# EAGLE library part FREESCALE_SEMICONDUCTOR_MPL3115A2 (library Upverter Library)
FRES-MPL3115A2-8
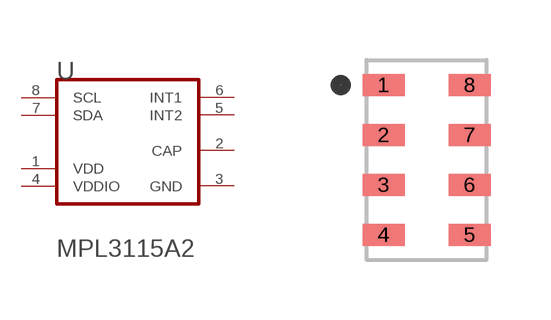
[diagram p0: symbol with the pads of FREESCALE_SEMICONDUCTOR_MPL3115A2_0; footprint FREESCALE_SEMICONDUCTOR_MPL3115A2_0]

Designator prefix U

## FREESCALE_SEMICONDUCTOR_MPL3115A2FREESCALE_SEMICONDUCTOR_MPL3115A2_0_0 (Component_Link_1_Description: Manufacturer URL; Component_Link_1_URL: http://www.freescale.com/; Component_Link_3_Description: Package Specification; Component_Link_3_URL: http://cache.freescale.com/files/shared/doc/package_info/98ASA00260D.pdf; Datasheet_Version: Rev. 3.0; MF: Freescale Semiconductor; MPN: MPL3115A2; Mounting_Technology: Surface Mount; Operating_Temperature_Range: -40 to 85 degC; Package_Description: 8-Pin Land Grid Array, Body 5 x 3 mm, Pitch 1.25 mm; Package_Version: Rev. O; Packing: Tray; VDD: 1.95 to 3.6 V; VDDIO: 1.62 to 3.6 V; ciiva_ids: 1172243; datasheet: http://cache.freescale.com/files/sensors/doc/data_sheet/MPL3115A2.pdf; fSCL20_pF: 4 MHz Max.; fSCL400_pF: 400 KHz Max.; footprint_variant_name_0: Manufacturer Recommended; import_ts: 1521845373; imported: yes; imported_from: vault; pin_0_0_7_inside_edge: clock; prefix: U; release_date: 1435138815; rohs: Yes; vault_guid: C9CA789F-172F-4FBE-A7EA-5C936E43DE32; vault_revision: 13F1D4E8-B129-4F1C-B772-6A98733F3276)  [FREESCALE_SEMICONDUCTOR_MPL3115A2_0]
1  VDD  pwr
2  CAP  pas
3  GND  pwr
4  VDDIO  pwr
5  INT2  out
6  INT1  out
7  SDA
8  SCL  in

## Footprint FREESCALE_SEMICONDUCTOR_MPL3115A2_0 (pad centres in mm)
FRES-MPL3115A2-8
smd 1.05 x 0.55: 1 -1.075,1.875; 2 -1.075,0.625; 3 -1.075,-0.625; 4 -1.075,-1.875; 5 1.075,-1.875; 6 1.075,-0.625; 7 1.075,0.625; 8 1.075,1.875